# EAGLE library part CY2292 (library F030NG)
Three-PLL General-Purpose EPROM-Programmable Clock Generator by Cypress technologies
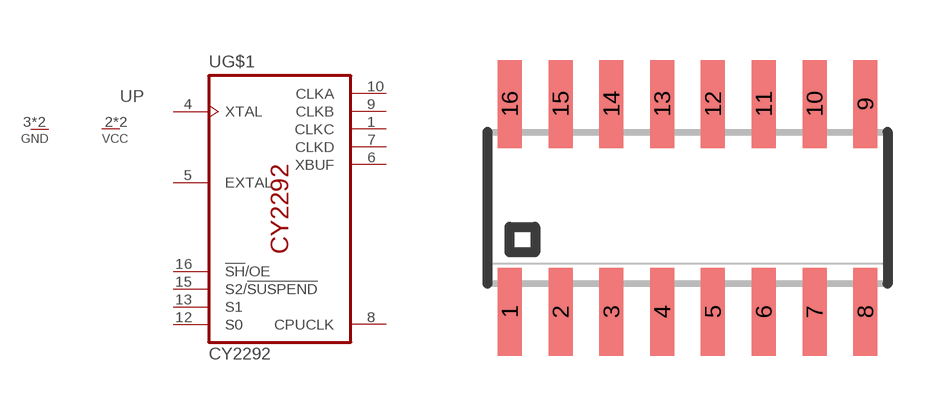
[diagram p70: symbol with the pads of SO16; footprint SO16]

Designator prefix U; gates P=1VCC_1GND G$1=CY2292

## CY2292  [SO16]
1  G$1:CLKC  out
2  P:VCC  pwr
3  P:GND  pwr
4  G$1:XTAL  in
5  G$1:EXTAL  out
6  G$1:XBUF  out
7  G$1:CLKD  out
8  G$1:CPUCLK  out
9  G$1:CLKB  out
10  G$1:CLKA  out
11  P:GND  pwr
12  G$1:S0  pas
13  G$1:S1  pas
14  P:VCC  pwr
15  G$1:S2/!SUSPEND  pas
16  G$1:!SH!/OE  pas

## Footprint SO16 (pad centres in mm)
SMALL OUTLINE INTEGRATED CIRCUIT body 3.9 mm/JEDEC MS-012AA
smd 0.6 x 2.2: 1 -4.445,-2.6; 2 -3.175,-2.6; 3 -1.905,-2.6; 4 -0.635,-2.6; 5 0.635,-2.6; 6 1.905,-2.6; 7 3.175,-2.6; 8 4.445,-2.6; 9 4.445,2.6; 10 3.175,2.6; 11 1.905,2.6; 12 0.635,2.6; 13 -0.635,2.6; 14 -1.905,2.6; 15 -3.175,2.6; 16 -4.445,2.6